# Altium footprint library ltc6810.PcbLib: 1 footprints
Each footprint in its own frame and in the unit in brackets; x right, y up, seen from the top. Pads: shape width x height; smd on the part's side, far side on the other; paste and mask are expansions set on the pad; w line width, h text height; cw(c..) or ccw(c..) is an arc to the next point about the centre after c.
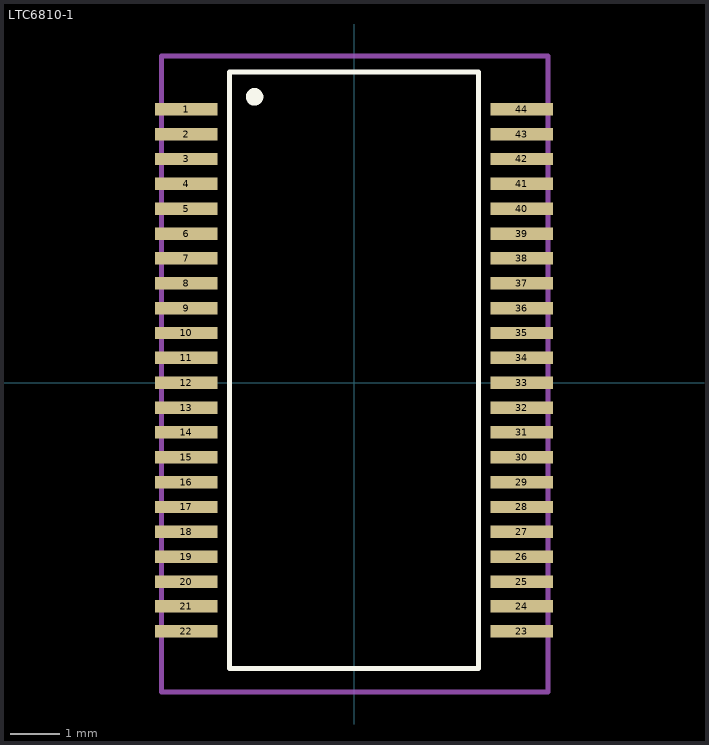
[diagram p0: the footprint, top view; thin cyan lines are the x and y axes]

## LTC6810-1 [mm]
pads (44):
  rect 1.25x0.25 smd: 1(-3.375,5.5) 2(-3.375,5) 3(-3.375,4.5) 4(-3.375,4) 5(-3.375,3.5) 6(-3.375,3) 7(-3.375,2.5) 8(-3.375,2) 9(-3.375,1.5) 10(-3.375,1) 11(-3.375,0.5) 12(-3.375,0) 13(-3.375,-0.5) 14(-3.375,-1) 15(-3.375,-1.5) 16(-3.375,-2) 17(-3.375,-2.5) 18(-3.375,-3) 19(-3.375,-3.5) 20(-3.375,-4) 21(-3.375,-4.5) 22(-3.375,-5) 23(3.375,-5) 24(3.375,-4.5) 25(3.375,-4) 26(3.375,-3.5) 27(3.375,-3) 28(3.375,-2.5) 29(3.375,-2) 30(3.375,-1.5) 31(3.375,-1) 32(3.375,-0.5) 33(3.375,0) 34(3.375,0.5) 35(3.375,1) 36(3.375,1.5) 37(3.375,2) 38(3.375,2.5) 39(3.375,3) 40(3.375,3.5) 41(3.375,4) 42(3.375,4.5) 43(3.375,5) 44(3.375,5.5)
Top Overlay:
  circle w0.25: c-2,5.75 r0.05
  lines w0.1: -2.5,-5.75 -2.5,6.25 2.5,6.25 2.5,-5.75 -2.5,-5.75
Mechanical 13:
  lines w0.1: -3.875,-6.225 3.9,-6.225 3.9,6.575 -3.875,6.575 -3.875,-6.225